# EAGLE library part B25A- (library rectifier_mod)
RECTIFIER 25-A bridge
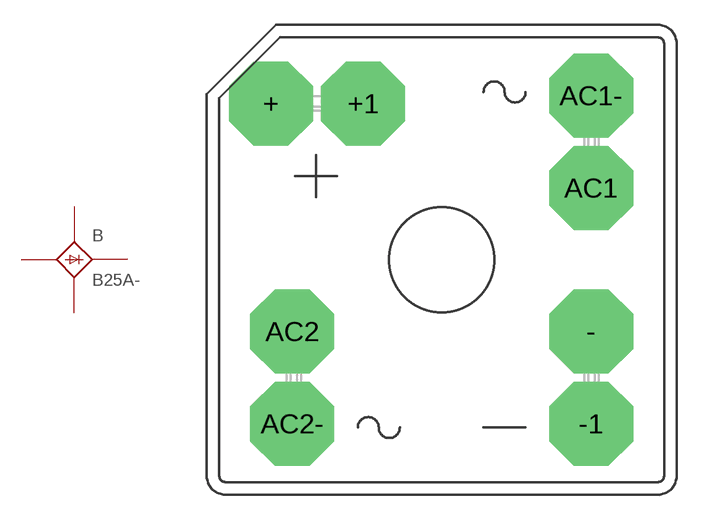
[diagram p0: symbol with the pads of B25A-; footprint B25A-]

Designator prefix B

## B25A-  [B25A-]
+  +  pas
+1  +  pas
-  -  pas
-1  -  pas
AC1  AC1  pas
AC1-  AC1  pas
AC2  AC2  pas
AC2-  AC2  pas

## Footprint B25A- (pad centres in mm)
RECTIFIER 25-A bridge
drill 2.007 pad 5.08 octagon: + -10.338,9.449; +1 -4.75,9.449; - 9.042,-4.343; -1 9.042,-9.931; AC1 9.042,4.343; AC1- 9.042,9.931; AC2 -9.042,-4.343; AC2- -9.042,-9.931
hole 6.401 at 0,0